# EAGLE library part PINH2X03 (library pinhead_smd)
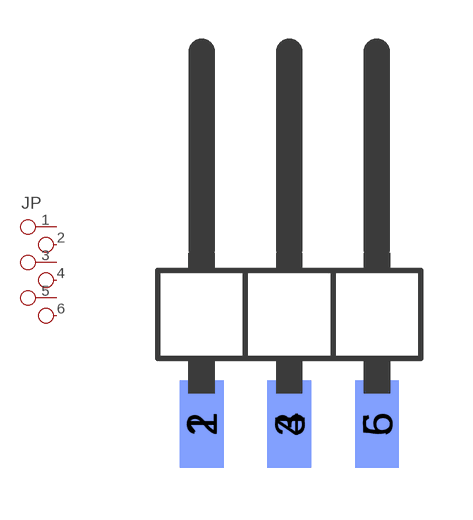
[diagram p0: symbol with the pads of PINH2X03SMD; footprint PINH2X03SMD]

Designator prefix JP

## PINH2X03  [PINH2X03SMD]
1  1  pas
2  2  pas
3  3  pas
4  4  pas
5  5  pas
6  6  pas

## Footprint PINH2X03SMD (pad centres in mm)
smd 1.27 x 2.54 bottom: 1 -2.54,0; 3 0,0; 5 2.54,0
smd 1.27 x 2.54: 2 -2.54,0; 4 0,0; 6 2.54,0